# Altium schematic symbol library DHT11.SchLib: 1 symbol
Pins are listed as number, name and electrical type; pins without a type are passive.

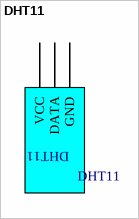
[diagram p0: symbol DHT11]

## DHT11
designator DHT11  (value not drawn)
pins: 1 GND, 2 DATA, 3 VCC